# EAGLE library part AS5013+ (library AMS-am5013)
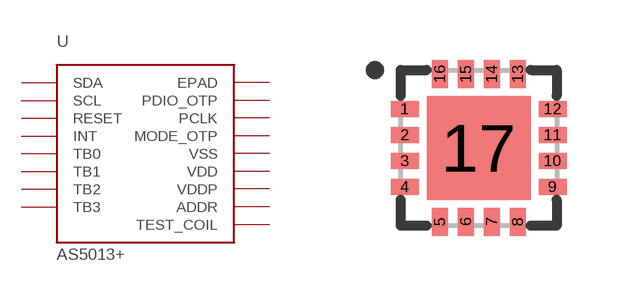
[diagram p3: symbol with the pads of AS5013; footprint AS5013]

Designator prefix U

## AS5013+  [AS5013]
1  SDA
2  SCL
3  RESET
4  INT
5  TB0
6  TB1
7  TB2
8  TB3
9  TEST_COIL
10  ADDR
11  VDDP
12  VDD
13  VSS
14  MODE_OTP
15  PCLK
16  PDIO_OTP
17  EPAD

## Footprint AS5013 (pad centres in mm)
smd 0.7 x 0.4: 1 -1.85,0.975; 2 -1.85,0.325; 3 -1.85,-0.325; 4 -1.85,-0.975; 9 1.85,-0.975; 10 1.85,-0.325; 11 1.85,0.325; 12 1.85,0.975
smd 0.4 x 0.7: 5 -0.975,-1.85; 6 -0.325,-1.85; 7 0.325,-1.85; 8 0.975,-1.85; 13 0.975,1.85; 14 0.325,1.85; 15 -0.325,1.85; 16 -0.975,1.85
smd 2.6 x 2.6: 17 0,0